# EAGLE library part LM3880MFX-1AB_NOPB (library LM3880MFX-1AB_NOPB)
3 Rail Simple Power Sequencer with Fixed Time Delay Source: Datasheet <http://www.ti.com/lit/gpn/lm3880>
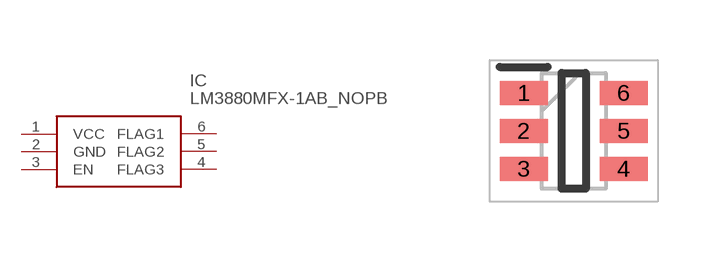
[diagram p0: symbol with the pads of SOT95P280X145-6N; footprint SOT95P280X145-6N]

Designator prefix IC

## LM3880MFX-1AB_NOPB (Description: 3 Rail Simple Power Sequencer with Fixed Time Delay; Height: 1.45mm; Manufacturer_Name: Texas Instruments; Manufacturer_Part_Number: LM3880MFX-1AB/NOPB; Mouser_Part_Number: 926-LM3880MFX1ABNOPB; Mouser_Price-Stock: https://www.mouser.co.uk/ProductDetail/Texas-Instruments/LM3880MFX-1AB-NOPB?qs=QbsRYf82W3HDF2qNeDWLVw%3D%3D)  [SOT95P280X145-6N]
1  VCC
2  GND
3  EN
4  FLAG3
5  FLAG2
6  FLAG1

## Footprint SOT95P280X145-6N (pad centres in mm)
DBV0006A
smd 1.2 x 0.6: 1 -1.25,0.95; 2 -1.25,0; 3 -1.25,-0.95; 4 1.25,-0.95; 5 1.25,0; 6 1.25,0.95